# Altium footprint library 1861933.PcbLib: 1 footprints
Each footprint in its own frame and in the unit in brackets; x right, y up, seen from the top. Pads: shape width x height; smd on the part's side, far side on the other; paste and mask are expansions set on the pad; w line width, h text height; cw(c..) or ccw(c..) is an arc to the next point about the centre after c.
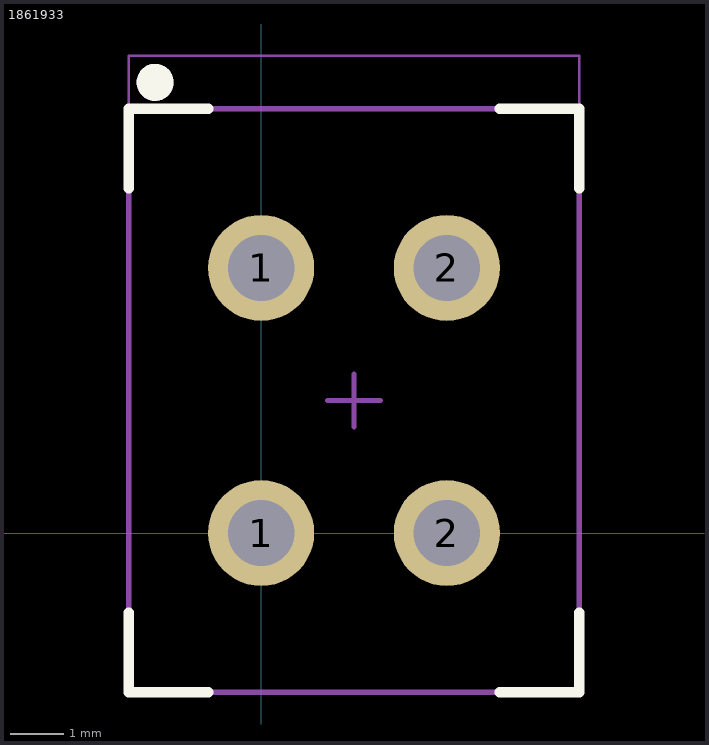
[diagram p0: the footprint, top view; thin cyan lines are the x and y axes]

## 1861933 [mm]
pads (4):
  round 2 hole 1.25: 1(0,0) 1(0,5) 2(3.5,0) 2(3.5,5)
Top Overlay:
  circle w0.4: c-2,8.5 r0.15
  lines w0.2: -2.5,-1.5 -2.5,-3 -1,-3 ; -2.5,6.5 -2.5,8 -1,8 ; 4.5,-3 6,-3 6,-1.5 ; 4.5,8 6,8 6,6.5
Mechanical 1:
  circle w0.4: c-2,8.5 r0.15
  lines w0.1: -2.5,-3 6,-3 6,8 -2.5,8 -2.5,-3
  text ".Designator" at -1.544,2.231 h0.65
Mechanical 2:
  lines w0.05: -2.5,-3 6,-3 6,9 -2.5,9 -2.5,-3
  lines w0.1: 1.25,2.5 2.25,2.5 ; 1.75,2 1.75,3
3D body "1861933.stp": height 8, standoff -2.6, extent -2.5,-3 6,8